# Altium schematic symbol library LEDBI.Schlib: 1 symbol
Pins are listed as number, name and electrical type; pins without a type are passive.

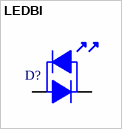
[diagram p0: symbol LEDBI]

## LEDBI
designator D?  (value not drawn)
Led BiColor 3mm - 2 Pines
pins: 1, 2